# EAGLE library part STM8S105K*B (library st-microelectronics)
Access line, 16 MHz STM8S 8-bit MCU up to 32 Kbytes Flash, integrated EEPROM,10-bit ADC, timers, UART, SPI, I²C Source: Data sheet <http://www.st.com/stonline/products/literature/ds/14771/stm8s105c4.pdf>
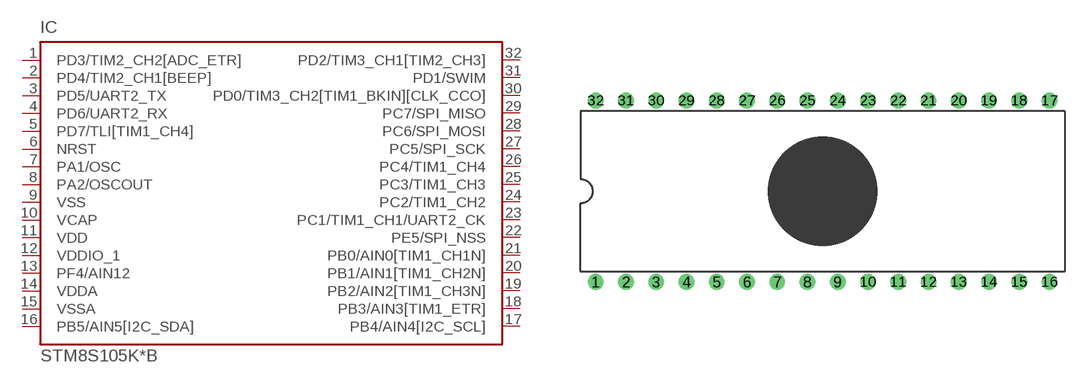
[diagram p45: symbol with the pads of FDIP32; footprint FDIP32]

Designator prefix IC

## STM8S105K4B, STM8S105K6B  [FDIP32]
1  PD3/TIM2_CH2[ADC_ETR]
2  PD4/TIM2_CH1[BEEP]
3  PD5/UART2_TX
4  PD6/UART2_RX
5  PD7/TLI[TIM1_CH4]
6  NRST
7  PA1/OSC
8  PA2/OSCOUT
9  VSS  pwr
10  VCAP  pwr
11  VDD  pwr
12  VDDIO_1  pwr
13  PF4/AIN12
14  VDDA  pwr
15  VSSA  pwr
16  PB5/AIN5[I2C_SDA]
17  PB4/AIN4[I2C_SCL]
18  PB3/AIN3[TIM1_ETR]
19  PB2/AIN2[TIM1_CH3N]
20  PB1/AIN1[TIM1_CH2N]
21  PB0/AIN0[TIM1_CH1N]
22  PE5/SPI_NSS
23  PC1/TIM1_CH1/UART2_CK
24  PC2/TIM1_CH2
25  PC3/TIM1_CH3
26  PC4/TIM1_CH4
27  PC5/SPI_SCK
28  PC6/SPI_MOSI
29  PC7/SPI_MISO
30  PD0/TIM3_CH2[TIM1_BKIN][CLK_CCO]
31  PD1/SWIM
32  PD2/TIM3_CH1[TIM2_CH3]

## Footprint FDIP32 (pad centres in mm)
FDIP32W (F) Source: www.st.com
drill 0.813 round: 1 -19.05,-7.62; 2 -16.51,-7.62; 3 -13.97,-7.62; 4 -11.43,-7.62; 5 -8.89,-7.62; 6 -6.35,-7.62; 7 -3.81,-7.62; 8 -1.27,-7.62; 9 1.27,-7.62; 10 3.81,-7.62; 11 6.35,-7.62; 12 8.89,-7.62; 13 11.43,-7.62; 14 13.97,-7.62; 15 16.51,-7.62; 16 19.05,-7.62; 17 19.05,7.62; 18 16.51,7.62; 19 13.97,7.62; 20 11.43,7.62; 21 8.89,7.62; 22 6.35,7.62; 23 3.81,7.62; 24 1.27,7.62; 25 -1.27,7.62; 26 -3.81,7.62; 27 -6.35,7.62; 28 -8.89,7.62; 29 -11.43,7.62; 30 -13.97,7.62; 31 -16.51,7.62; 32 -19.05,7.62